# EAGLE library part MCP23016 (library microchip-nuno)
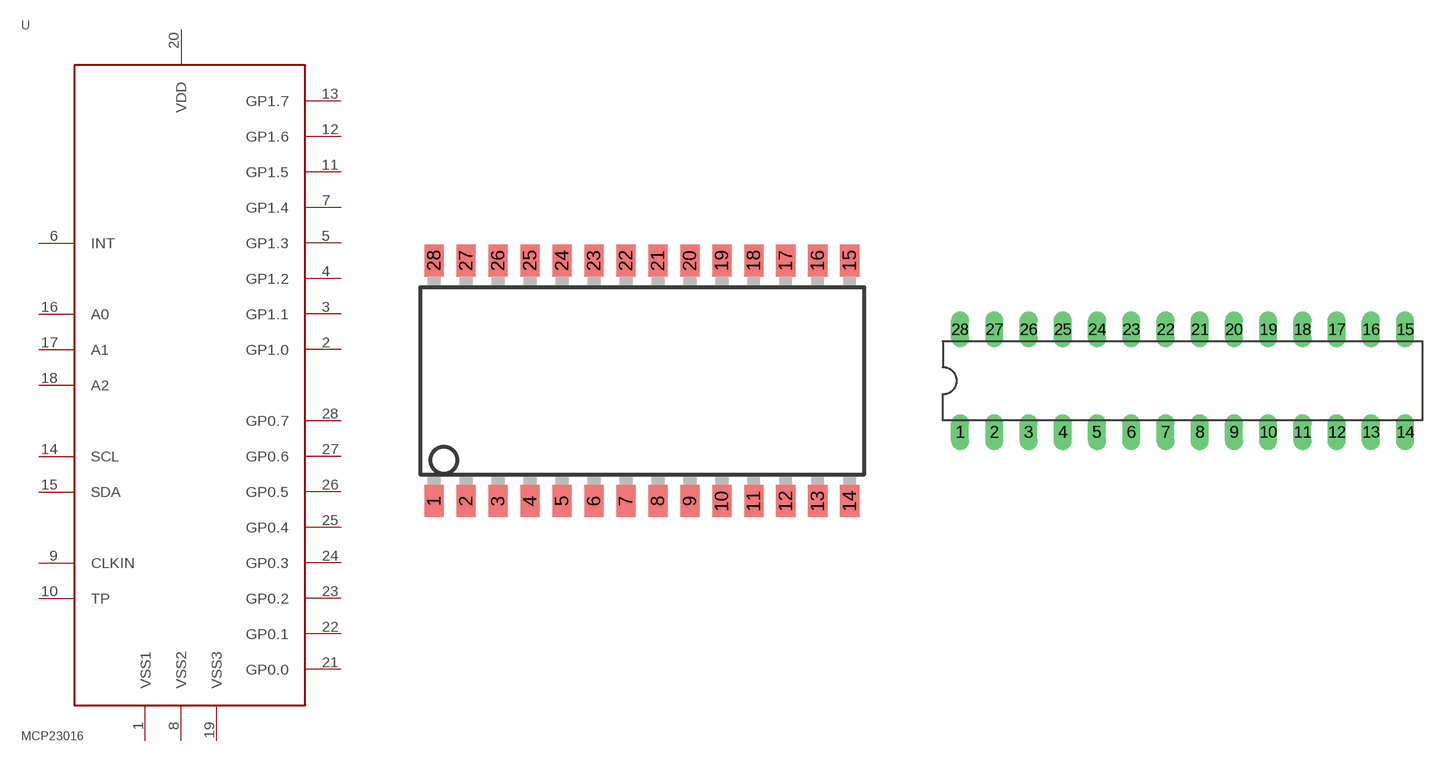
[diagram p0: symbol with the pads of SO-28W; footprints SO-28W, DIL28-3]

Designator prefix -

## MCP23016SO  [SO-28W]
1  VSS1  pwr
2  GP1.0
3  GP1.1
4  GP1.2
5  GP1.3
6  INT  out
7  GP1.4
8  VSS2  pwr
9  CLKIN  in
10  TP  out
11  GP1.5
12  GP1.6
13  GP1.7
14  SCL  in
15  SDA
16  A0  in
17  A1  in
18  A2  in
19  VSS3  pwr
20  VDD  pwr
21  GP0.0
22  GP0.1
23  GP0.2
24  GP0.3
25  GP0.4
26  GP0.5
27  GP0.6
28  GP0.7

## MCP23016DIL  [DIL28-3]
Pads as for SO-28W

## Footprint SO-28W (pad centres in mm)
smd 0.762 x 1.27: 1 -21.59,-4.78; 2 -20.32,-4.78; 3 -19.05,-4.78; 4 -17.78,-4.78; 5 -16.51,-4.78; 6 -15.24,-4.78; 7 -13.97,-4.78; 8 -12.7,-4.78; 9 -11.43,-4.78; 10 -10.16,-4.78; 11 -8.89,-4.78; 12 -7.62,-4.78; 13 -6.35,-4.78; 14 -5.08,-4.78; 15 -5.08,4.78; 16 -6.35,4.78; 17 -7.62,4.78; 18 -8.89,4.78; 19 -10.16,4.78; 20 -11.43,4.78; 21 -12.7,4.78; 22 -13.97,4.78; 23 -15.24,4.78; 24 -16.51,4.78; 25 -17.78,4.78; 26 -19.05,4.78; 27 -20.32,4.78; 28 -21.59,4.78

## Footprint DIL28-3 (pad centres in mm)
Dual In Line Package Small
drill 0.813 long: 1 -16.51,-3.81; 2 -13.97,-3.81; 3 -11.43,-3.81; 4 -8.89,-3.81; 5 -6.35,-3.81; 6 -3.81,-3.81; 7 -1.27,-3.81; 8 1.27,-3.81; 9 3.81,-3.81; 10 6.35,-3.81; 11 8.89,-3.81; 12 11.43,-3.81; 13 13.97,-3.81; 14 16.51,-3.81; 15 16.51,3.81; 16 13.97,3.81; 17 11.43,3.81; 18 8.89,3.81; 19 6.35,3.81; 20 3.81,3.81; 21 1.27,3.81; 22 -1.27,3.81; 23 -3.81,3.81; 24 -6.35,3.81; 25 -8.89,3.81; 26 -11.43,3.81; 27 -13.97,3.81; 28 -16.51,3.81